# EAGLE library part WE-DS_242117113 (library wurth_elektronik_passive_rev16d)
WE-DS D-SUB-Filter Connectors Bent 90° Characteristics Standard type filtered with 1000 pF High attenuation of more than 40 dB @ 180 MHz Low size: 6.3 mm Rated voltage: 125 VDC Rated current @ 20 ºC: 5 A Withstand voltage: 250 VRMS Insulation resistance: min. 1000 MΩ Operating temperature: –55 ºC to +125 ºC Applications Filtering of interfaces External connection to -printer -sensor -display <http://katalog.we-online.de/media/thumbs2/eisos/thb_AbsDSubFilter_SMD_pf2.jpg> Details see: http://katalog.we-online.de/en/pbs/D-SUB-Filter Bent 90° <http://katalog.we-online.de/en/pbs/Filter_SMD?sid=29b915c42a> Created on 2015-05-04 2015 (C) Wurth Elektronik
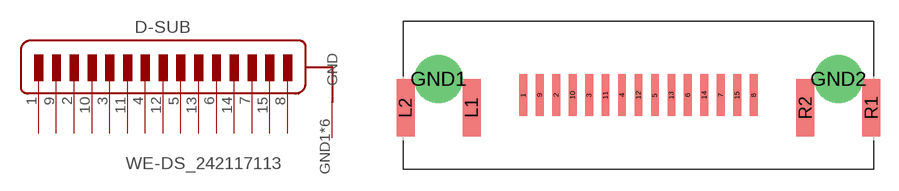
[diagram p206: symbol with the pads of WE-DS_242117113; footprint WE-DS_242117113]

Designator prefix D-SUB

## WE-DS_242117113  [WE-DS_242117113]
1  1
2  2
3  3
4  4
5  5
6  6
7  7
8  8
9  9
10  10
11  11
12  12
13  13
14  14
15  15
GND1  GND
GND2  GND
L1  GND
L2  GND
R1  GND
R2  GND

## Footprint WE-DS_242117113 (pad centres in mm)
smd 0.65 x 3.5: 1 -9.59,0; 2 -6.85,0; 3 -4.11,0; 4 -1.37,0; 5 1.37,0; 6 4.11,0; 7 6.85,0; 8 9.59,0; 9 -8.22,0; 10 -5.48,0; 11 -2.74,0; 12 0,0; 13 2.74,0; 14 5.48,0; 15 8.22,0
drill 3 pad 3.9: GND1 -16.65,1.35; GND2 16.65,1.35
smd 1.5 x 4.8: L1 -13.9,-1.05; L2 -19.4,-1.05; R1 19.4,-1.05; R2 13.9,-1.05